# EAGLE library part M10 (library xmaker)
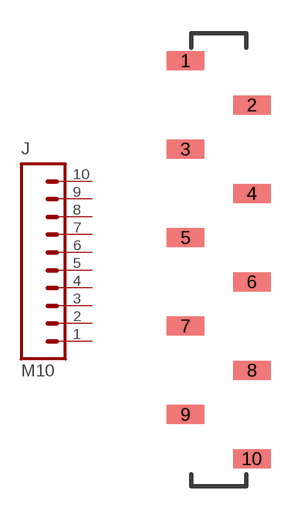
[diagram p16: symbol with the pads of SMM-110-02-S-S; footprint SMM-110-02-S-S]

Designator prefix J

## M10  [SMM-110-02-S-S]
1  1  pas
2  2  pas
3  3  pas
4  4  pas
5  5  pas
6  6  pas
7  7  pas
8  8  pas
9  9  pas
10  10  pas

## Footprint SMM-110-02-S-S (pad centres in mm)
smd 1.7 x 0.85: 1 -1.5,9; 2 1.5,7; 3 -1.5,5; 4 1.5,3; 5 -1.5,1; 6 1.5,-1; 7 -1.5,-3; 8 1.5,-5; 9 -1.5,-7; 10 1.5,-9